# EAGLE library part 1X06_HEADER_L (library Puffin)
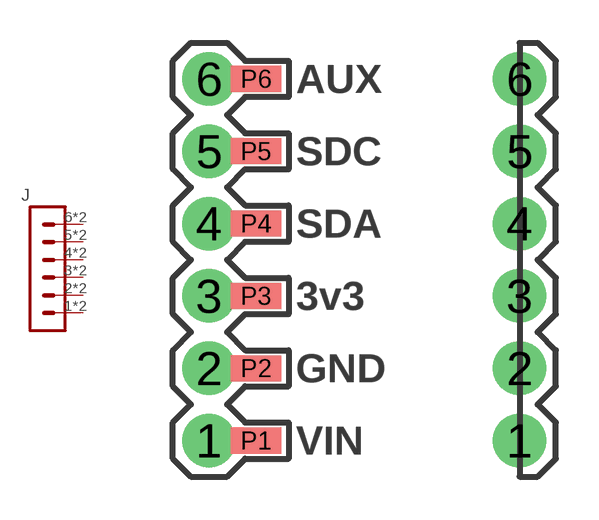
[diagram p6: symbol with the pads of 1X06_PADS_L; footprints 1X06_PADS_L, 1X06_EDGE_L]

Designator prefix J

## 1X06_HEADER_L1X06_PADS_L  [1X06_PADS_L]
1  1  pas
2  2  pas
3  3  pas
4  4  pas
5  5  pas
6  6  pas
P1  1  pas
P2  2  pas
P3  3  pas
P4  4  pas
P5  5  pas
P6  6  pas

## 1X06_HEADER_L1X06_EDGE_L  [1X06_EDGE_L]
1  1  pas
2  2  pas
3  3  pas
4  4  pas
5  5  pas
6  6  pas

## Footprint 1X06_PADS_L (pad centres in mm)
drill 1.016 pad 1.88: 1 0,0; 2 0,2.54; 3 0,5.08; 4 0,7.62; 5 0,10.16; 6 0,12.7
smd 1.778 x 0.914: P1 1.651,0; P2 1.651,2.54; P3 1.651,5.08; P4 1.651,7.62; P5 1.651,10.16; P6 1.651,12.7

## Footprint 1X06_EDGE_L (pad centres in mm)
drill 1.016 pad 1.88: 1 0,0; 2 0,2.54; 3 0,5.08; 4 0,7.62; 5 0,10.16; 6 0,12.7